# Altium integrated library SS34-E3_slash_9AT.IntLib: 2 symbols
Pins are listed as number, name and electrical type; pins without a type are passive.

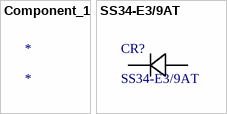
[diagram p0: symbols Component_1 to SS34-E3/9AT]

## Component_1
designator *

## SS34-E3/9AT
designator CR?
No Description Available; Mfr_Name: Vishay; Type: DEV; Copyright: Copyright (C) 2021 Ultra Librarian. All rights reserved.; Manufacturer_Part_Number: SS34-E3/9AT; RefDes: RefDes
footprint CR_3/9AT_VIS
pins: 1 CATHODE, 2 ANODE